# Altium schematic symbol library KamerarSliderSchematicLibrary.SchLib: 5 symbols
Pins are listed as number, name and electrical type; pins without a type are passive.

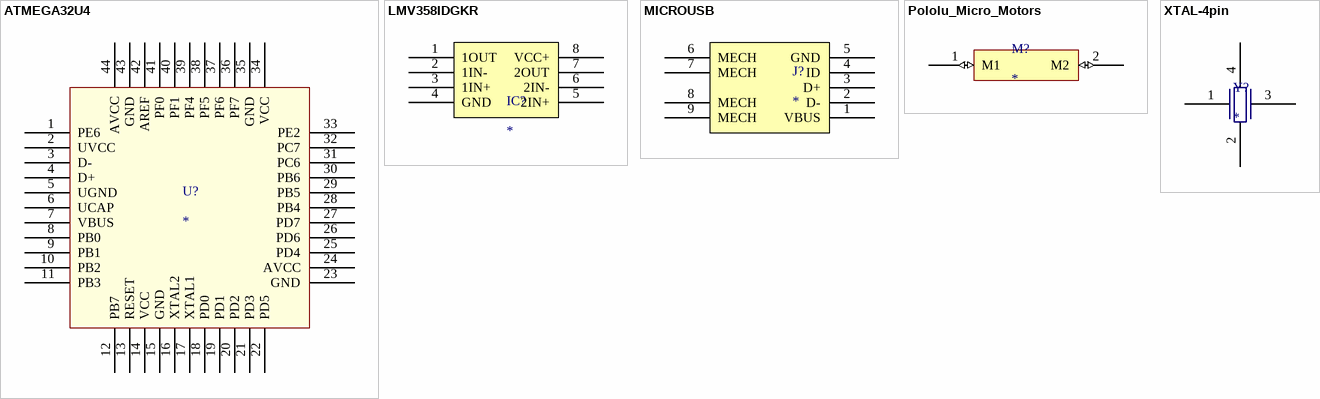
[diagram p0: symbols ATMEGA32U4 to XTAL-4pin]

## ATMEGA32U4
designator U?
ATMEGA32U4 - TQFP/QFN 44
footprint ATMEGA32u4 - TQFP (TQFP, 44-Leads, Body 12.0x12.0mm (max), Pitch 0.80mm, IPC Medium Density)
pins: 1 PE6, 2 UVCC, 3 D-, 4 D+, 5 UGND, 6 UCAP, 7 VBUS, 8 PB0, 9 PB1, 10 PB2, 11 PB3, 12 PB7, 13 RESET, 14 VCC, 15 GND, 16 XTAL2, 17 XTAL1, 18 PD0, 19 PD1, 20 PD2, 21 PD3, 22 PD5, 23 GND, 24 AVCC, 25 PD4, 26 PD6, 27 PD7, 28 PB4, 29 PB5, 30 PB6, 31 PC6, 32 PC7, 33 PE2, 34 VCC, 35 GND, 36 PF7, 37 PF6, 38 PF5, 39 PF4, 40 PF1, 41 PF0, 42 AREF, 43 GND, 44 AVCC

## LMV358IDGKR
designator IC?
footprint LMV358IDGKR (TEXAS INSTRUMENTS - LMV358IDGKR - OP AMP, LOW VOLTAGE, 1MHZ, 1V/US, MSOP-8)
pins: 1 1OUT, 2 1IN-, 3 1IN+, 4 GND, 5 2IN+, 6 2IN-, 7 2OUT, 8 VCC+

## MICROUSB
designator J?
footprint MicroUSB (Micro USB2.0 Type B)
pins: 1 VBUS, 2 D-, 3 D+, 4 ID, 5 GND, 6 MECH, 7 MECH, 8 MECH, 9 MECH

## Pololu_Micro_Motors
designator M?
footprint PololuMicroMotor
pins: 1 M1 (io), 2 M2 (io)

## XTAL-4pin
designator Y?
footprint TXC XTAL 7B (5 x 3.2 mm SMD SEAM CRYSTAL 7B SERIES - 7B-16.000MAAJ-T)
pins: 1, 2 GND, 3, 4 GND